# EAGLE library part SS-TOP (library dec-con)
Single Sided Top Connector. Also suitable for building wider single-sided modules.
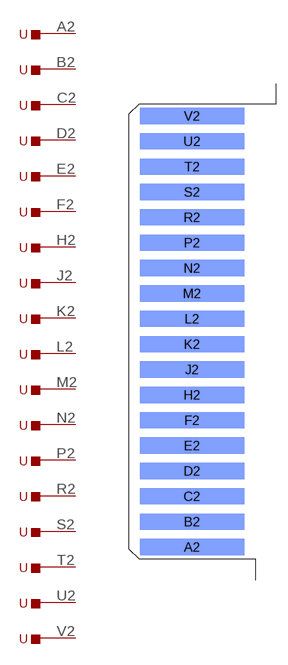
[diagram p104: symbol with the pads of EDGE-CON1; footprint EDGE-CON1]

Designator prefix -; gates A2=PIN B2=PIN C2=PIN D2=PIN E2=PIN F2=PIN H2=PIN J2=PIN K2=PIN L2=PIN M2=PIN N2=PIN P2=PIN R2=PIN S2=PIN T2=PIN U2=PIN V2=PIN

## SS-TOP  [EDGE-CON1]
A2  A2:P  pas
B2  B2:P  pas
C2  C2:P  pas
D2  D2:P  pas
E2  E2:P  pas
F2  F2:P  pas
H2  H2:P  pas
J2  J2:P  pas
K2  K2:P  pas
L2  L2:P  pas
M2  M2:P  pas
N2  N2:P  pas
P2  P2:P  pas
R2  R2:P  pas
S2  S2:P  pas
T2  T2:P  pas
U2  U2:P  pas
V2  V2:P  pas

## Footprint EDGE-CON1 (pad centres in mm)
Single-sided Edge Connector
smd 13.106 x 2.032 bottom: A2 7.938,4.128; B2 7.938,7.303; C2 7.938,10.477; D2 7.938,13.652; E2 7.938,16.828; F2 7.938,20.003; H2 7.938,23.177; J2 7.938,26.352; K2 7.938,29.527; L2 7.938,32.703; M2 7.938,35.877; N2 7.938,39.053; P2 7.938,42.227; R2 7.938,45.403; S2 7.938,48.578; T2 7.938,51.752; U2 7.938,54.928; V2 7.938,58.102